# Altium integrated library Library_Darnet.IntLib: 5 symbols
Pins are listed as number, name and electrical type; pins without a type are passive.

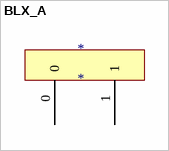
[diagram p0: symbol BLX_A]

## BLX_A
designator *
footprint BLX_A
pins: 0, 1


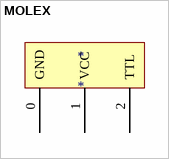
[diagram p1: symbol MOLEX]

## MOLEX
designator *
footprint MOLEX
pins: 0 GND, 1 VCC, 2 TTL


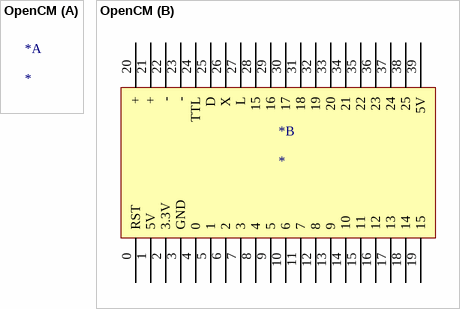
[diagram p2: symbol OpenCM]

## OpenCM
designator *
footprint OpenCM
part B pins: 0 RST, 1 5V, 2 3.3V, 3 GND, 4 0, 5 1, 6 2, 7 3, 8 4, 9 5, 10 6, 11 7, 12 8, 13 9, 14 10, 15 11, 16 12, 17 13, 18 14, 19 15, 20 +, 21 +, 22 -, 23 -, 24 TTL, 25 D, 26 X, 27 L, 28 15, 29 16, 30 17, 31 18, 32 19, 33 20, 34 21, 35 22, 36 23, 37 24, 38 25, 39 5V


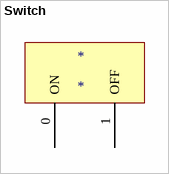
[diagram p3: symbol Switch]

## Switch
designator *
footprint Switch
pins: 0 ON, 1 OFF


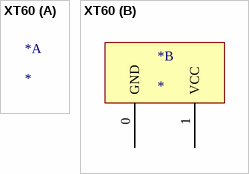
[diagram p4: symbol XT60]

## XT60
designator *
footprint XT60
part B pins: 0 GND, 1 VCC